# Altium schematic symbol library AS1D-2M-10-Z.SchLib: 2 symbols
Pins are listed as number, name and electrical type; pins without a type are passive.

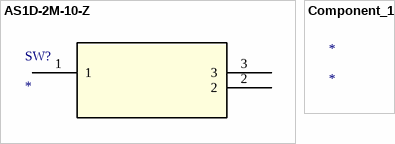
[diagram p0: symbols AS1D-2M-10-Z to Component_1]

## AS1D-2M-10-Z
designator SW?
No Description Available; Mfr_Name: Nidec Copal Electronics; RefDes: RefDes; Type: Type
footprint AS1D-2M_NDC
pins: 1, 2, 3

## Component_1
designator *